# Altium schematic symbol library Home.SchLib: 8 symbols
Pins are listed as number, name and electrical type; pins without a type are passive.

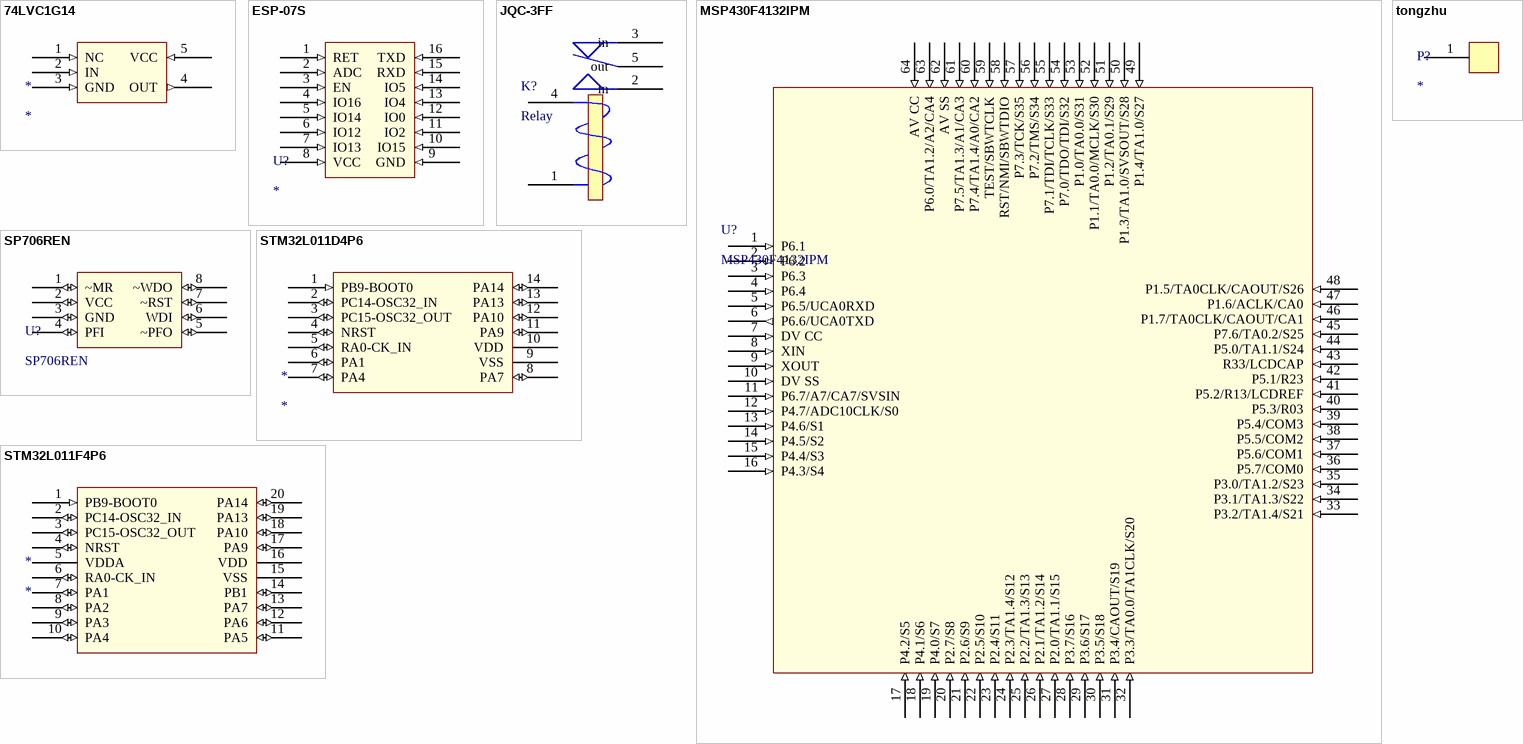
[diagram p0: symbols 74LVC1G14 to tongzhu]

## 74LVC1G14
designator *
反相器
pins: 1 NC (in), 2 IN (in), 3 GND (in), 4 OUT (out), 5 VCC (in)

## ESP-07S
designator U?
WIFI模块
pins: 1 RET (in), 2 ADC (in), 3 EN (in), 4 IO16 (in), 5 IO14 (in), 6 IO12 (in), 7 IO13 (in), 8 VCC (in), 9 GND (in), 10 IO15 (in), 11 IO2 (in), 12 IO0 (in), 13 IO4 (in), 14 IO5 (in), 15 RXD (in), 16 TXD (in)

## JQC-3FF
designator K?, comment Relay
继电器05-1ZS(551)
footprint JQC-3FF (继电器)
pins: 1 (power), 2 in, 3 in, 4, 5 out

## MSP430F4132IPM
designator U?
pins: 1 P6.1 (in), 2 P6.2 (in), 3 P6.3 (in), 4 P6.4 (in), 5 P6.5/UCA0RXD (in), 6 P6.6/UCA0TXD (out), 7 DV CC (in), 8 XIN (in), 9 XOUT (in), 10 DV SS (in), 11 P6.7/A7/CA7/SVSIN (in), 12 P4.7/ADC10CLK/S0 (in), 13 P4.6/S1 (in), 14 P4.5/S2 (in), 15 P4.4/S3 (in), 16 P4.3/S4 (in), 17 P4.2/S5 (in), 18 P4.1/S6 (in), 19 P4.0/S7 (in), 20 P2.7/S8 (in), 21 P2.6/S9 (in), 22 P2.5/S10 (in), 23 P2.4/S11 (in), 24 P2.3/TA1.4/S12 (in), 25 P2.2/TA1.3/S13 (in), 26 P2.1/TA1.2/S14 (in), 27 P2.0/TA1.1/S15 (in), 28 P3.7/S16 (in), 29 P3.6/S17 (in), 30 P3.5/S18 (in), 31 P3.4/CAOUT/S19 (in), 32 P3.3/TA0.0/TA1CLK/S20 (in), 33 P3.2/TA1.4/S21 (in), 34 P3.1/TA1.3/S22 (in), 35 P3.0/TA1.2/S23 (in), 36 P5.7/COM0 (in), 37 P5.6/COM1 (in), 38 P5.5/COM2 (in), 39 P5.4/COM3 (in), 40 P5.3/R03 (in), 41 P5.2/R13/LCDREF (in), 42 P5.1/R23 (in), 43 R33/LCDCAP (in), 44 P5.0/TA1.1/S24 (in), 45 P7.6/TA0.2/S25 (in), 46 P1.7/TA0CLK/CAOUT/CA1 (in), 47 P1.6/ACLK/CA0 (in), 48 P1.5/TA0CLK/CAOUT/S26 (in), 49 P1.4/TA1.0/S27 (in), 50 P1.3/TA1.0/SVSOUT/S28 (in), 51 P1.2/TA0.1/S29 (in), 52 P1.1/TA0.0/MCLK/S30 (in), 53 P1.0/TA0.0/S31 (in), 54 P7.0/TDO/TDI/S32 (in), 55 P7.1/TDI/TCLK/S33 (in), 56 P7.2/TMS/S34 (in), 57 P7.3/TCK/S35 (in), 58 RST/NMI/SBWTDIO (in), 59 TEST/SBWTCLK (in), 60 P7.4/TA1.4/A0/CA2 (in), 61 P7.5/TA1.3/A1/CA3 (in), 62 AV SS (in), 63 P6.0/TA1.2/A2/CA4 (in), 64 AV CC (in)

## SP706REN
designator U?
看门狗
pins: 1 ~MR (io), 2 VCC (io), 3 GND (io), 4 PFI (io), 5 ~PFO (io), 6 WDI (io), 7 ~RST (io), 8 ~WDO (io)

## STM32L011D4P6
designator *
pins: 1 PB9-BOOT0 (in), 2 PC14-OSC32_IN (io), 3 PC15-OSC32_OUT (io), 4 NRST (io), 5 RA0-CK_IN (io), 6 PA1 (io), 7 PA4 (io), 8 PA7 (io), 9 VSS (power), 10 VDD (power), 11 PA9 (io), 12 PA10 (io), 13 PA13 (io), 14 PA14 (io)

## STM32L011F4P6
designator *
footprint LC-TSSOP-20
pins: 1 PB9-BOOT0 (in), 2 PC14-OSC32_IN (io), 3 PC15-OSC32_OUT (io), 4 NRST (io), 5 VDDA (power), 6 RA0-CK_IN (io), 7 PA1 (io), 8 PA2 (io), 9 PA3 (io), 10 PA4 (io), 11 PA5 (io), 12 PA6 (io), 13 PA7 (io), 14 PB1 (io), 15 VSS (power), 16 VDD (power), 17 PA9 (io), 18 PA10 (io), 19 PA13 (io), 20 PA14 (io)

## tongzhu
designator P?
铜柱
pins: 1 (power)